# EAGLE library part 9PIN (library butia)
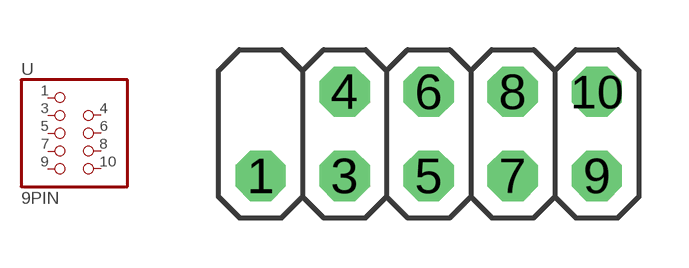
[diagram p0: symbol with the pads of 9PIN; footprint 9PIN]

Designator prefix -

## 9PIN  [9PIN]
1  1  pas
3  3  pas
4  4  pas
5  5  pas
6  6  pas
7  7  pas
8  8  pas
9  9  pas
10  10  pas

## Footprint 9PIN (pad centres in mm)
drill 1.016 octagon: 1 -5.08,-1.27; 3 -2.54,-1.27; 4 -2.54,1.27; 5 0,-1.27; 6 0,1.27; 7 2.54,-1.27; 8 2.54,1.27; 9 5.08,-1.27; 10 5.08,1.27